# EAGLE library part 62503421721 (library Wire_to_Board_Connectors_rev15d)
WR-BHD 2.00mm Male Angled Box Header, 34 Pins=>Code : Con_WTB_BHD_2.00_Male_THT_62503421721 <http://katalog.we-online.de/media/thumbs2/eican/thb_Con_WTB_BHD_2.00_Male_THT_6250xx21721_pf2.jpg> Details see: http://katalog.we-online.de/en/em/625_0xx_217_21 Created 2014-06-05, Karrer Zheng 2014 (C) Würth Elektronik
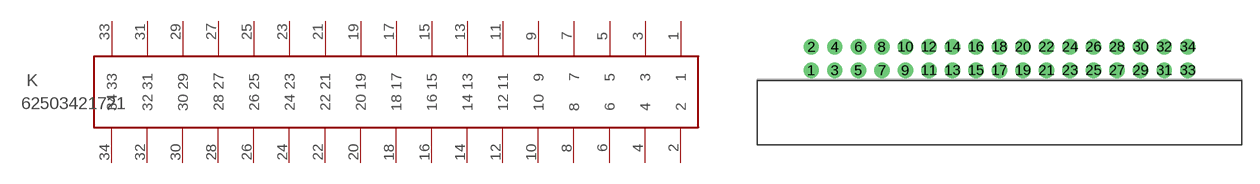
[diagram p244: symbol with the pads of 62503421721; footprint 62503421721]

Designator prefix K

## 62503421721  [62503421721]
1  1  pas
2  2  pas
3  3  pas
4  4  pas
5  5  pas
6  6  pas
7  7  pas
8  8  pas
9  9  pas
10  10  pas
11  11  pas
12  12  pas
13  13  pas
14  14  pas
15  15  pas
16  16  pas
17  17  pas
18  18  pas
19  19  pas
20  20  pas
21  21  pas
22  22  pas
23  23  pas
24  24  pas
25  25  pas
26  26  pas
27  27  pas
28  28  pas
29  29  pas
30  30  pas
31  31  pas
32  32  pas
33  33  pas
34  34  pas

## Footprint 62503421721 (pad centres in mm)
WR-BHD-2.00mm Male Angled Box Header,34 pins
drill 0.8: 1 -16,-1; 2 -16,1; 3 -14,-1; 4 -14,1; 5 -12,-1; 6 -12,1; 7 -10,-1; 8 -10,1; 9 -8,-1; 10 -8,1; 11 -6,-1; 12 -6,1; 13 -4,-1; 14 -4,1; 15 -2,-1; 16 -2,1; 17 0,-1; 18 0,1; 19 2,-1; 20 2,1; 21 4,-1; 22 4,1; 23 6,-1; 24 6,1; 25 8,-1; 26 8,1; 27 10,-1; 28 10,1; 29 12,-1; 30 12,1; 31 14,-1; 32 14,1; 33 16,-1; 34 16,1